# Altium schematic symbol library Btn_Vert.SchLib: 1 symbol
Pins are listed as number, name and electrical type; pins without a type are passive.

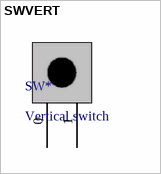
[diagram p0: symbol SWVERT]

## SWVERT
designator SW*, comment Vertical switch
footprint Btn_Vert (Vertical 6x6mm button)
pins: 0, 1